# Altium schematic symbol library 1206YC105KAT2A.SchLib: 1 symbol
Pins are listed as number, name and electrical type; pins without a type are passive.

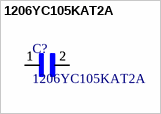
[diagram p0: symbol 1206YC105KAT2A]

## 1206YC105KAT2A
designator C?
Cap Ceramic 1uF 16V X7R 10% SMD 1206 125ÂÂŽ T/R; MF: {'manufacturer': u'AVX'}; Value: *; Package: None; MP: 1206YC105KAT2A; Price: None; Availability: Unavailable
footprint CAPC3216X127N
pins: 1, 1, 2, 2